# Altium schematic symbol library GRMMDXR60J105ME05D.SchLib: 1 symbol
Pins are listed as number, name and electrical type; pins without a type are passive.

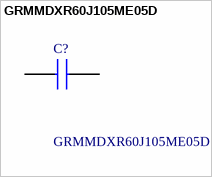
[diagram p0: symbol GRMMDXR60J105ME05D]

## GRMMDXR60J105ME05D
designator C?
Multilayer Ceramic Capacitors MLCC - SMD/SMT 015008 1uF 6.3V X5R Derate Mobile Only; Manufacturer_Name: Murata Electronics; Geometry.Height: 0.275mm; Mouser Part Number: 81-GRMMDXR60J105ME5D; Mouser Price/Stock: https://www.mouser.co.uk/ProductDetail/Murata-Electronics/GRMMDXR60J105ME05D?qs=%252Bdbji%2FA6pC8gun9kUCdQZQ%3D%3D; Manufacturer_Part_Number: GRMMDXR60J105ME05D; Datasheet Link: *
footprint CAPC0502X28N
pins: 1, 2